# EAGLE library part SE555D (library SE555D)
None Check availability <https://pricing.snapeda.com/parts/SE555D/Texas%20Instruments/view-part?ref=eda>
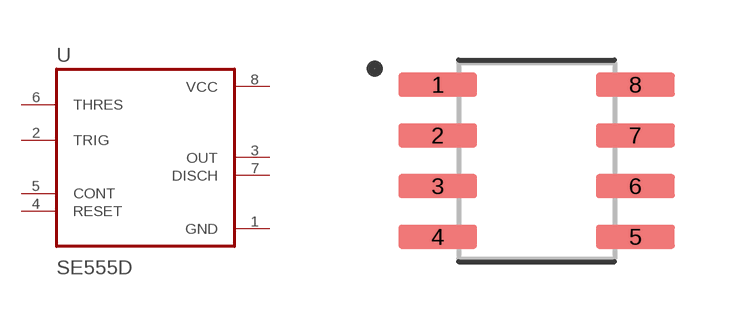
[diagram p0: symbol with the pads of SOIC127P599X175-8N; footprint SOIC127P599X175-8N]

Designator prefix U

## SE555D (Availability: In Stock; Check_prices: https://www.snapeda.com/parts/SE555D/Texas+Instruments/view-part/?ref=eda; Description: Precision timer for -55 to 125C operation; MF: Texas Instruments; MP: SE555D; Package: SOIC-8 Texas Instruments; Price: None; Purchase-URL: https://www.snapeda.com/api/url_track_click_mouser/?unipart_id=4805641&manufacturer=Texas Instruments&part_name=SE555D&search_term=se555d; SnapEDA_Link: https://www.snapeda.com/parts/SE555D/Texas+Instruments/view-part/?ref=snap)  [SOIC127P599X175-8N]
1  GND  pwr
2  TRIG  in
3  OUT  out
4  RESET  in
5  CONT
6  THRES  in
7  DISCH  out
8  VCC  pwr

## Footprint SOIC127P599X175-8N (pad centres in mm)
smd 1.97 x 0.6: 1 -2.47,1.905; 2 -2.47,0.635; 3 -2.47,-0.635; 4 -2.47,-1.905; 5 2.47,-1.905; 6 2.47,-0.635; 7 2.47,0.635; 8 2.47,1.905